# Altium footprint library 开关.PcbLib: 1 footprints
Each footprint in its own frame and in the unit in brackets; x right, y up, seen from the top. Pads: shape width x height; smd on the part's side, far side on the other; paste and mask are expansions set on the pad; w line width, h text height; cw(c..) or ccw(c..) is an arc to the next point about the centre after c.
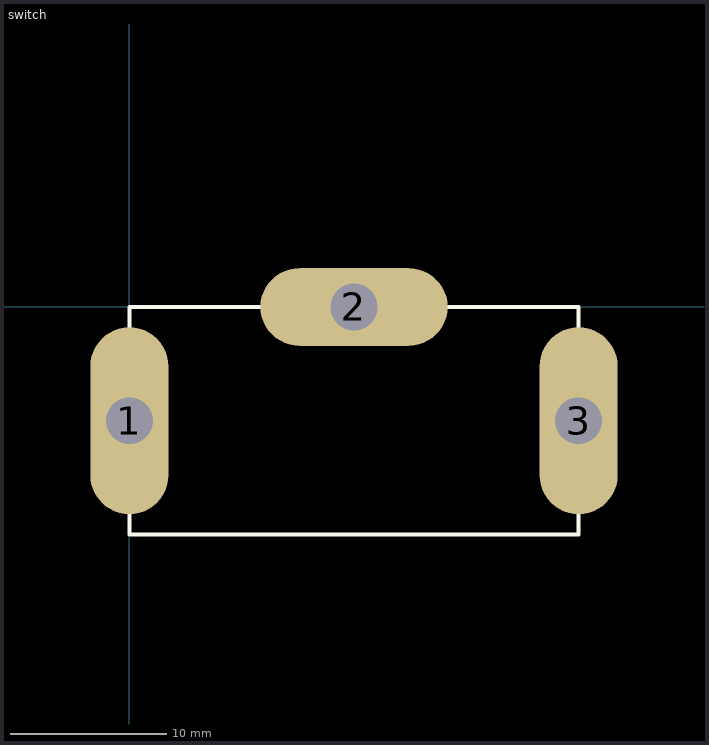
[diagram p0: the footprint, top view; thin cyan lines are the x and y axes]

## switch [mm]
pads (3):
  oval 5x12 hole 3 square: 1(0,-7.3) 3(28.8,-7.3)
  oval 12x5 hole 3 square: 2(14.4,0)
Top Overlay:
  lines w0.254: 28.673,-14.6 0,-14.6 0,0 28.8,0 28.8,-14.6